# EAGLE library part MM74HC165M (library Fairchild_By_element14_Batch_1)
Parallel-in/Serial-out 8-Bit Shift Register
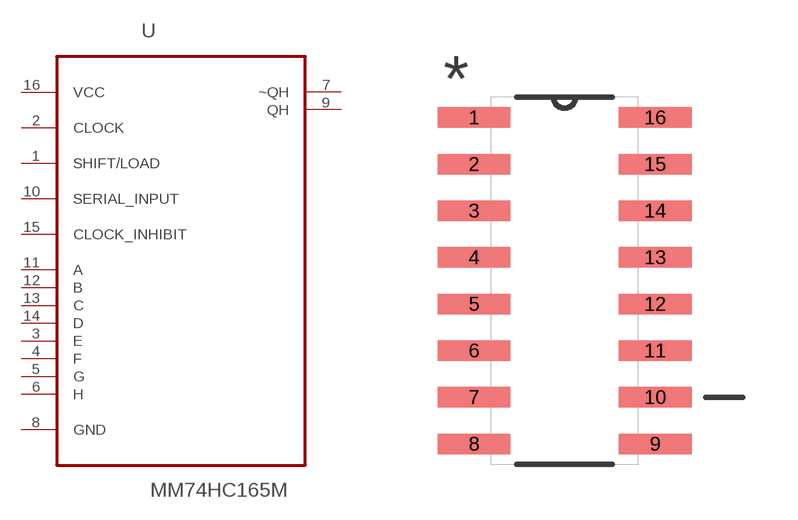
[diagram p257: symbol with the pads of SOIC127P600X175-16N; footprint SOIC127P600X175-16N]

Designator prefix U

## MM74HC165M (MPN: MM74HC165M; OC_FARNELL: 1013967; OC_NEWARK: 78K6068; PACKAGE: SOIC-16; SUPPLIER: Fairchild Semiconductor)  [SOIC127P600X175-16N]
1  SHIFT/LOAD  in
2  CLOCK  in
3  E  in
4  F  in
5  G  in
6  H  in
7  ~QH  out
8  GND  pas
9  QH  out
10  SERIAL_INPUT  in
11  A  in
12  B  in
13  C  in
14  D  in
15  CLOCK_INHIBIT  in
16  VCC  pwr

## Footprint SOIC127P600X175-16N (pad centres in mm)
smd 1.981 x 0.559: 1 -2.464,4.445; 2 -2.464,3.175; 3 -2.464,1.905; 4 -2.464,0.635; 5 -2.464,-0.635; 6 -2.464,-1.905; 7 -2.464,-3.175; 8 -2.464,-4.445; 9 2.464,-4.445; 10 2.464,-3.175; 11 2.464,-1.905; 12 2.464,-0.635; 13 2.464,0.635; 14 2.464,1.905; 15 2.464,3.175; 16 2.464,4.445